# EAGLE library part 74HC4052 (library thanics_robotics)
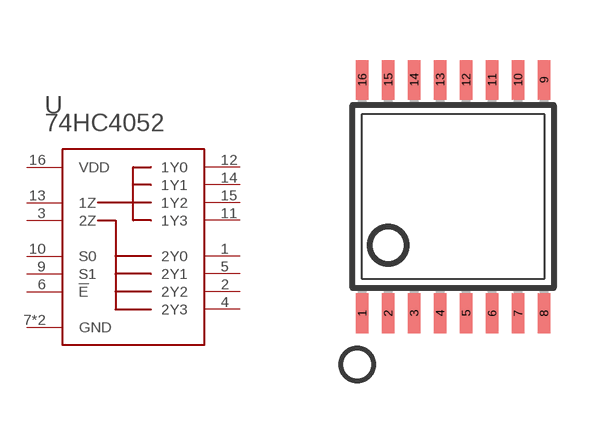
[diagram p36: symbol with the pads of TSSOP16; footprint TSSOP16]

Designator prefix -

## 74HC4052PW  [TSSOP16]
1  2Y0
2  2Y2
3  2Z
4  2Y3
5  2Y1
6  !E
7  GND
8  GND
9  S1
10  S0
11  1Y3
12  1Y0
13  1Z
14  1Y1
15  1Y2
16  VDD

## Footprint TSSOP16 (pad centres in mm)
Thin Shrink Small Outline Plastic 16 MAX3223-MAX3243.pdf
smd 0.305 x 0.991: 1 -2.275,-2.918; 2 -1.625,-2.918; 3 -0.975,-2.918; 4 -0.325,-2.918; 5 0.325,-2.918; 6 0.975,-2.918; 7 1.625,-2.918; 8 2.275,-2.918; 9 2.275,2.918; 10 1.625,2.918; 11 0.975,2.918; 12 0.325,2.918; 13 -0.325,2.918; 14 -0.975,2.918; 15 -1.625,2.918; 16 -2.275,2.918